# Altium schematic symbol library Optoelectronika.SchLib: 4 symbols
Pins are listed as number, name and electrical type; pins without a type are passive.

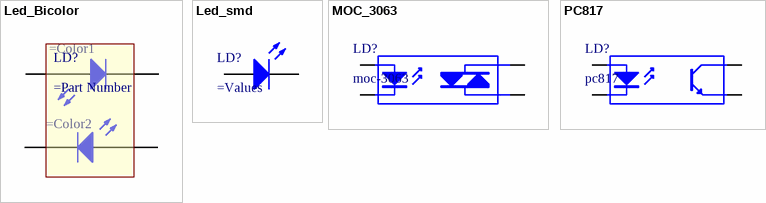
[diagram p0: symbols Led_Bicolor to PC817]

## Led_Bicolor
designator LD?
pins: 1 A, 2 K, 3 K, 4 A

## Led_smd
designator LD?
светодиод
footprint led_3216 (Footprint not found)
footprint 3216
pins: 1 A, 2 K

## MOC_3063
designator LD?, comment moc-3063
опто-семистор
footprint MOC_3063 (Dip-6)
pins: 1 A, 2 K, 4 A/K, 6 A/K

## PC817
designator LD?, comment pc817
оптопара
footprint pc817_dip-4 (Footprint not found)
pins: 1 A "Anode", 2 K "Cathode", 3 E "Emitter", 4 C "Collector"